# Altium integrated library ALTIUM-WE-TPC-rev17a.IntLib: 258 symbols (part 2 of 3)
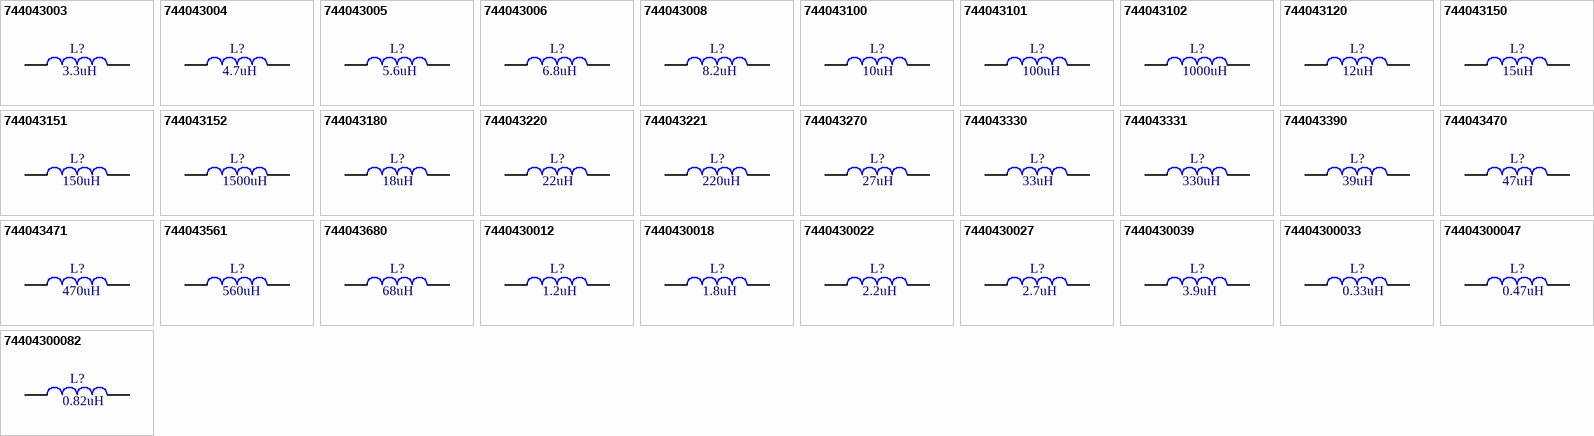
[diagram p16: symbols 744043003 to 74404300082]

## 7440430039
designator L?  value 3.9uH
WE-TPC SMD Shielded Tiny Power Inductor, size 4828, 1.72A, 50mΩ, 3.9uH; Part Number: 7440430039; ComponentLink1Description: Manufacturer; ComponentLink1URL: http://www.we-online.de; ComponentLink2Description: Datasheet; ComponentLink2URL: http://katalog.we-online.de/pbs/datasheet/7440430039.pdf; Published Date: July 2017; Publisher: Wurth Elektronik; Rated Current: 1.72A; Size: 4828; DC Resistance: 50mΩ
footprint WE-TPC_4828
pins: 1, 2

## 74404300033
designator L?  value 0.33uH
WE-TPC SMD Shielded Tiny Power Inductor, size 4828, 4A, 8mΩ, 0.33uH; Part Number: 74404300033; ComponentLink1Description: Manufacturer; ComponentLink1URL: http://www.we-online.de; ComponentLink2Description: Datasheet; ComponentLink2URL: http://katalog.we-online.de/pbs/datasheet/74404300033.pdf; Published Date: July 2017; Publisher: Wurth Elektronik; Rated Current: 4A; Size: 4828; DC Resistance: 8mΩ
footprint WE-TPC_4828
pins: 1, 2

## 74404300047
designator L?  value 0.47uH
WE-TPC SMD Shielded Tiny Power Inductor, size 4828, 3.8A, 10mΩ, 0.47uH; Part Number: 74404300047; ComponentLink1Description: Manufacturer; ComponentLink1URL: http://www.we-online.de; ComponentLink2Description: Datasheet; ComponentLink2URL: http://katalog.we-online.de/pbs/datasheet/74404300047.pdf; Published Date: July 2017; Publisher: Wurth Elektronik; Rated Current: 3.8A; Size: 4828; DC Resistance: 10mΩ
footprint WE-TPC_4828
pins: 1, 2

## 74404300082
designator L?  value 0.82uH
WE-TPC SMD Shielded Tiny Power Inductor, size 4828, 3.5A, 14mΩ, 0.82uH; Part Number: 74404300082; ComponentLink1Description: Manufacturer; ComponentLink1URL: http://www.we-online.de; ComponentLink2Description: Datasheet; ComponentLink2URL: http://katalog.we-online.de/pbs/datasheet/74404300082.pdf; Published Date: July 2017; Publisher: Wurth Elektronik; Rated Current: 3.5A; Size: 4828; DC Resistance: 14mΩ
footprint WE-TPC_4828
pins: 1, 2


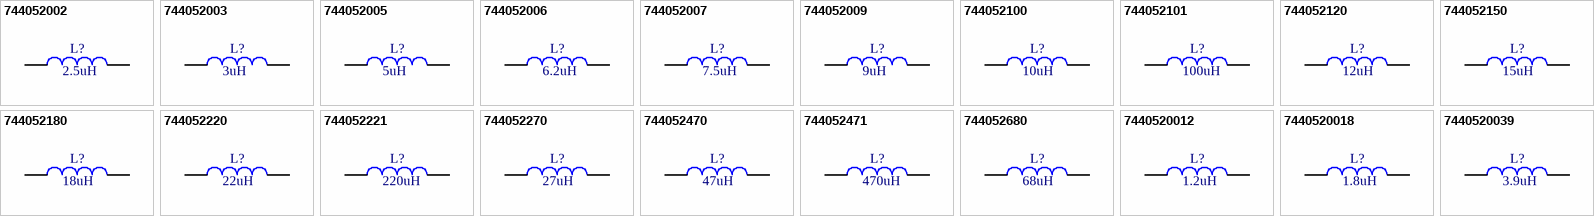
[diagram p7: symbols 744052002 to 7440520039]

## 744052002
designator L?  value 2.5uH
WE-TPC SMD Shielded Tiny Power Inductor, size 5818, 2.4A, 30mΩ, 2.5uH; Part Number: 744052002; ComponentLink1Description: Manufacturer; ComponentLink1URL: http://www.we-online.de; ComponentLink2Description: Datasheet; ComponentLink2URL: http://katalog.we-online.de/pbs/datasheet/744052002.pdf; Published Date: July 2017; Publisher: Wurth Elektronik; Rated Current: 2.4A; Size: 5818; DC Resistance: 30mΩ
footprint WE-TPC_5818
pins: 1, 2

## 744052003
designator L?  value 3uH
WE-TPC SMD Shielded Tiny Power Inductor, size 5818, 2.2A, 35mΩ, 3uH; Part Number: 744052003; ComponentLink1Description: Manufacturer; ComponentLink1URL: http://www.we-online.de; ComponentLink2Description: Datasheet; ComponentLink2URL: http://katalog.we-online.de/pbs/datasheet/744052003.pdf; Published Date: July 2017; Publisher: Wurth Elektronik; Rated Current: 2.2A; Size: 5818; DC Resistance: 35mΩ
footprint WE-TPC_5818
pins: 1, 2

## 744052005
designator L?  value 5uH
WE-TPC SMD Shielded Tiny Power Inductor, size 5818, 1.65A, 50mΩ, 5uH; Part Number: 744052005; ComponentLink1Description: Manufacturer; ComponentLink1URL: http://www.we-online.de; ComponentLink2Description: Datasheet; ComponentLink2URL: http://katalog.we-online.de/pbs/datasheet/744052005.pdf; Published Date: July 2017; Publisher: Wurth Elektronik; Rated Current: 1.65A; Size: 5818; DC Resistance: 50mΩ
footprint WE-TPC_5818
pins: 1, 2

## 744052006
designator L?  value 6.2uH
WE-TPC SMD Shielded Tiny Power Inductor, size 5818, 1.45A, 70mΩ, 6.2uH; Part Number: 744052006; ComponentLink1Description: Manufacturer; ComponentLink1URL: http://www.we-online.de; ComponentLink2Description: Datasheet; ComponentLink2URL: http://katalog.we-online.de/pbs/datasheet/744052006.pdf; Published Date: July 2017; Publisher: Wurth Elektronik; Rated Current: 1.45A; Size: 5818; DC Resistance: 70mΩ
footprint WE-TPC_5818
pins: 1, 2

## 744052007
designator L?  value 7.5uH
WE-TPC SMD Shielded Tiny Power Inductor, size 5818, 1.35A, 70mΩ, 7.5uH; Part Number: 744052007; ComponentLink1Description: Manufacturer; ComponentLink1URL: http://www.we-online.de; ComponentLink2Description: Datasheet; ComponentLink2URL: http://katalog.we-online.de/pbs/datasheet/744052007.pdf; Published Date: July 2017; Publisher: Wurth Elektronik; Rated Current: 1.35A; Size: 5818; DC Resistance: 70mΩ
footprint WE-TPC_5818
pins: 1, 2

## 744052009
designator L?  value 9uH
WE-TPC SMD Shielded Tiny Power Inductor, size 5818, 1.25A, 90mΩ, 9uH; Part Number: 744052009; ComponentLink1Description: Manufacturer; ComponentLink1URL: http://www.we-online.de; ComponentLink2Description: Datasheet; ComponentLink2URL: http://katalog.we-online.de/pbs/datasheet/744052009.pdf; Published Date: July 2017; Publisher: Wurth Elektronik; Rated Current: 1.25A; Size: 5818; DC Resistance: 90mΩ
footprint WE-TPC_5818
pins: 1, 2

## 744052100
designator L?  value 10uH
WE-TPC SMD Shielded Tiny Power Inductor, size 5818, 1.1A, 105mΩ, 10uH; Part Number: 744052100; ComponentLink1Description: Manufacturer; ComponentLink1URL: http://www.we-online.de; ComponentLink2Description: Datasheet; ComponentLink2URL: http://katalog.we-online.de/pbs/datasheet/744052100.pdf; Published Date: July 2017; Publisher: Wurth Elektronik; Rated Current: 1.1A; Size: 5818; DC Resistance: 105mΩ
footprint WE-TPC_5818
pins: 1, 2

## 744052101
designator L?  value 100uH
WE-TPC SMD Shielded Tiny Power Inductor, size 5818, 0.35A, 815mΩ, 100uH; Part Number: 744052101; ComponentLink1Description: Manufacturer; ComponentLink1URL: http://www.we-online.de; ComponentLink2Description: Datasheet; ComponentLink2URL: http://katalog.we-online.de/pbs/datasheet/744052101.pdf; Published Date: July 2017; Publisher: Wurth Elektronik; Rated Current: 0.35A; Size: 5818; DC Resistance: 815mΩ
footprint WE-TPC_5818
pins: 1, 2

## 744052120
designator L?  value 12uH
WE-TPC SMD Shielded Tiny Power Inductor, size 5818, 1A, 130mΩ, 12uH; Part Number: 744052120; ComponentLink1Description: Manufacturer; ComponentLink1URL: http://www.we-online.de; ComponentLink2Description: Datasheet; ComponentLink2URL: http://katalog.we-online.de/pbs/datasheet/744052120.pdf; Published Date: July 2017; Publisher: Wurth Elektronik; Rated Current: 1A; Size: 5818; DC Resistance: 130mΩ
footprint WE-TPC_5818
pins: 1, 2

## 744052150
designator L?  value 15uH
WE-TPC SMD Shielded Tiny Power Inductor, size 5818, 0.95A, 150mΩ, 15uH; Part Number: 744052150; ComponentLink1Description: Manufacturer; ComponentLink1URL: http://www.we-online.de; ComponentLink2Description: Datasheet; ComponentLink2URL: http://katalog.we-online.de/pbs/datasheet/744052150.pdf; Published Date: July 2017; Publisher: Wurth Elektronik; Rated Current: 0.95A; Size: 5818; DC Resistance: 150mΩ
footprint WE-TPC_5818
pins: 1, 2

## 744052180
designator L?  value 18uH
WE-TPC SMD Shielded Tiny Power Inductor, size 5818, 0.9A, 185mΩ, 18uH; Part Number: 744052180; ComponentLink1Description: Manufacturer; ComponentLink1URL: http://www.we-online.de; ComponentLink2Description: Datasheet; ComponentLink2URL: http://katalog.we-online.de/pbs/datasheet/744052180.pdf; Published Date: July 2017; Publisher: Wurth Elektronik; Rated Current: 0.9A; Size: 5818; DC Resistance: 185mΩ
footprint WE-TPC_5818
pins: 1, 2

## 744052220
designator L?  value 22uH
WE-TPC SMD Shielded Tiny Power Inductor, size 5818, 0.8A, 240mΩ, 22uH; Part Number: 744052220; ComponentLink1Description: Manufacturer; ComponentLink1URL: http://www.we-online.de; ComponentLink2Description: Datasheet; ComponentLink2URL: http://katalog.we-online.de/pbs/datasheet/744052220.pdf; Published Date: July 2017; Publisher: Wurth Elektronik; Rated Current: 0.8A; Size: 5818; DC Resistance: 240mΩ
footprint WE-TPC_5818
pins: 1, 2

## 744052221
designator L?  value 220uH
WE-TPC SMD Shielded Tiny Power Inductor, size 5818, 0.23A, 2400mΩ, 220uH; Part Number: 744052221; ComponentLink1Description: Manufacturer; ComponentLink1URL: http://www.we-online.de; ComponentLink2Description: Datasheet; ComponentLink2URL: http://katalog.we-online.de/pbs/datasheet/744052221.pdf; Published Date: July 2017; Publisher: Wurth Elektronik; Rated Current: 0.23A; Size: 5818; DC Resistance: 2400mΩ
footprint WE-TPC_5818
pins: 1, 2

## 744052270
designator L?  value 27uH
WE-TPC SMD Shielded Tiny Power Inductor, size 5818, 0.78A, 250mΩ, 27uH; Part Number: 744052270; ComponentLink1Description: Manufacturer; ComponentLink1URL: http://www.we-online.de; ComponentLink2Description: Datasheet; ComponentLink2URL: http://katalog.we-online.de/pbs/datasheet/744052270.pdf; Published Date: July 2017; Publisher: Wurth Elektronik; Rated Current: 0.78A; Size: 5818; DC Resistance: 250mΩ
footprint WE-TPC_5818
pins: 1, 2

## 744052470
designator L?  value 47uH
WE-TPC SMD Shielded Tiny Power Inductor, size 5818, 0.77A, 530mΩ, 47uH; Part Number: 744052470; ComponentLink1Description: Manufacturer; ComponentLink1URL: http://www.we-online.de; ComponentLink2Description: Datasheet; ComponentLink2URL: http://katalog.we-online.de/pbs/datasheet/744052470.pdf; Published Date: July 2017; Publisher: Wurth Elektronik; Rated Current: 0.77A; Size: 5818; DC Resistance: 530mΩ
footprint WE-TPC_5818
pins: 1, 2

## 744052471
designator L?  value 470uH
WE-TPC SMD Shielded Tiny Power Inductor, size 5818, 0.14A, 4175mΩ, 470uH; Part Number: 744052471; ComponentLink1Description: Manufacturer; ComponentLink1URL: http://www.we-online.de; ComponentLink2Description: Datasheet; ComponentLink2URL: http://katalog.we-online.de/pbs/datasheet/744052471.pdf; Published Date: July 2017; Publisher: Wurth Elektronik; Rated Current: 0.14A; Size: 5818; DC Resistance: 4175mΩ
footprint WE-TPC_5818
pins: 1, 2

## 744052680
designator L?  value 68uH
WE-TPC SMD Shielded Tiny Power Inductor, size 5818, 0.64A, 840mΩ, 68uH; Part Number: 744052680; ComponentLink1Description: Manufacturer; ComponentLink1URL: http://www.we-online.de; ComponentLink2Description: Datasheet; ComponentLink2URL: http://katalog.we-online.de/pbs/datasheet/744052680.pdf; Published Date: July 2017; Publisher: Wurth Elektronik; Rated Current: 0.64A; Size: 5818; DC Resistance: 840mΩ
footprint WE-TPC_5818
pins: 1, 2

## 7440520012
designator L?  value 1.2uH
WE-TPC SMD Shielded Tiny Power Inductor, size 5818, 3A, 20mΩ, 1.2uH; Part Number: 7440520012; ComponentLink1Description: Manufacturer; ComponentLink1URL: http://www.we-online.de; ComponentLink2Description: Datasheet; ComponentLink2URL: http://katalog.we-online.de/pbs/datasheet/7440520012.pdf; Published Date: July 2017; Publisher: Wurth Elektronik; Rated Current: 3A; Size: 5818; DC Resistance: 20mΩ
footprint WE-TPC_5818
pins: 1, 2

## 7440520018
designator L?  value 1.8uH
WE-TPC SMD Shielded Tiny Power Inductor, size 5818, 2.6A, 24mΩ, 1.8uH; Part Number: 7440520018; ComponentLink1Description: Manufacturer; ComponentLink1URL: http://www.we-online.de; ComponentLink2Description: Datasheet; ComponentLink2URL: http://katalog.we-online.de/pbs/datasheet/7440520018.pdf; Published Date: July 2017; Publisher: Wurth Elektronik; Rated Current: 2.6A; Size: 5818; DC Resistance: 24mΩ
footprint WE-TPC_5818
pins: 1, 2

## 7440520039
designator L?  value 3.9uH
WE-TPC SMD Shielded Tiny Power Inductor, size 5818, 2A, 50mΩ, 3.9uH; Part Number: 7440520039; ComponentLink1Description: Manufacturer; ComponentLink1URL: http://www.we-online.de; ComponentLink2Description: Datasheet; ComponentLink2URL: http://katalog.we-online.de/pbs/datasheet/7440520039.pdf; Published Date: July 2017; Publisher: Wurth Elektronik; Rated Current: 2A; Size: 5818; DC Resistance: 50mΩ
footprint WE-TPC_5818
pins: 1, 2


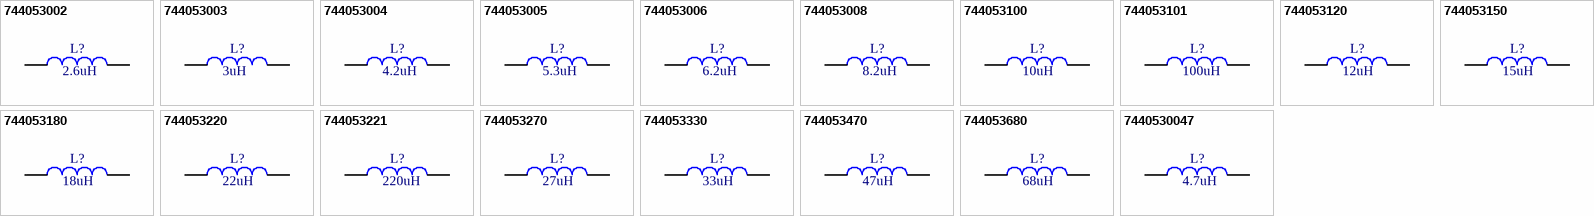
[diagram p8: symbols 744053002 to 7440530047]

## 744053002
designator L?  value 2.6uH
WE-TPC SMD Shielded Tiny Power Inductor, size 5828, 3A, 20mΩ, 2.6uH; Part Number: 744053002; ComponentLink1Description: Manufacturer; ComponentLink1URL: http://www.we-online.de; ComponentLink2Description: Datasheet; ComponentLink2URL: http://katalog.we-online.de/pbs/datasheet/744053002.pdf; Published Date: July 2017; Publisher: Wurth Elektronik; Rated Current: 3A; Size: 5828; DC Resistance: 20mΩ
footprint WE-TPC_5828
pins: 1, 2

## 744053003
designator L?  value 3uH
WE-TPC SMD Shielded Tiny Power Inductor, size 5828, 2.8A, 20mΩ, 3uH; Part Number: 744053003; ComponentLink1Description: Manufacturer; ComponentLink1URL: http://www.we-online.de; ComponentLink2Description: Datasheet; ComponentLink2URL: http://katalog.we-online.de/pbs/datasheet/744053003.pdf; Published Date: July 2017; Publisher: Wurth Elektronik; Rated Current: 2.8A; Size: 5828; DC Resistance: 20mΩ
footprint WE-TPC_5828
pins: 1, 2

## 744053004
designator L?  value 4.2uH
WE-TPC SMD Shielded Tiny Power Inductor, size 5828, 2.5A, 30mΩ, 4.2uH; Part Number: 744053004; ComponentLink1Description: Manufacturer; ComponentLink1URL: http://www.we-online.de; ComponentLink2Description: Datasheet; ComponentLink2URL: http://katalog.we-online.de/pbs/datasheet/744053004.pdf; Published Date: July 2017; Publisher: Wurth Elektronik; Rated Current: 2.5A; Size: 5828; DC Resistance: 30mΩ
footprint WE-TPC_5828
pins: 1, 2

## 744053005
designator L?  value 5.3uH
WE-TPC SMD Shielded Tiny Power Inductor, size 5828, 2.3A, 30mΩ, 5.3uH; Part Number: 744053005; ComponentLink1Description: Manufacturer; ComponentLink1URL: http://www.we-online.de; ComponentLink2Description: Datasheet; ComponentLink2URL: http://katalog.we-online.de/pbs/datasheet/744053005.pdf; Published Date: July 2017; Publisher: Wurth Elektronik; Rated Current: 2.3A; Size: 5828; DC Resistance: 30mΩ
footprint WE-TPC_5828
pins: 1, 2

## 744053006
designator L?  value 6.2uH
WE-TPC SMD Shielded Tiny Power Inductor, size 5828, 2.2A, 40mΩ, 6.2uH; Part Number: 744053006; ComponentLink1Description: Manufacturer; ComponentLink1URL: http://www.we-online.de; ComponentLink2Description: Datasheet; ComponentLink2URL: http://katalog.we-online.de/pbs/datasheet/744053006.pdf; Published Date: July 2017; Publisher: Wurth Elektronik; Rated Current: 2.2A; Size: 5828; DC Resistance: 40mΩ
footprint WE-TPC_5828
pins: 1, 2

## 744053008
designator L?  value 8.2uH
WE-TPC SMD Shielded Tiny Power Inductor, size 5828, 2.1A, 50mΩ, 8.2uH; Part Number: 744053008; ComponentLink1Description: Manufacturer; ComponentLink1URL: http://www.we-online.de; ComponentLink2Description: Datasheet; ComponentLink2URL: http://katalog.we-online.de/pbs/datasheet/744053008.pdf; Published Date: July 2017; Publisher: Wurth Elektronik; Rated Current: 2.1A; Size: 5828; DC Resistance: 50mΩ
footprint WE-TPC_5828
pins: 1, 2

## 744053100
designator L?  value 10uH
WE-TPC SMD Shielded Tiny Power Inductor, size 5828, 1.5A, 60mΩ, 10uH; Part Number: 744053100; ComponentLink1Description: Manufacturer; ComponentLink1URL: http://www.we-online.de; ComponentLink2Description: Datasheet; ComponentLink2URL: http://katalog.we-online.de/pbs/datasheet/744053100.pdf; Published Date: July 2017; Publisher: Wurth Elektronik; Rated Current: 1.5A; Size: 5828; DC Resistance: 60mΩ
footprint WE-TPC_5828
pins: 1, 2

## 744053101
designator L?  value 100uH
WE-TPC SMD Shielded Tiny Power Inductor, size 5828, 0.45A, 400mΩ, 100uH; Part Number: 744053101; ComponentLink1Description: Manufacturer; ComponentLink1URL: http://www.we-online.de; ComponentLink2Description: Datasheet; ComponentLink2URL: http://katalog.we-online.de/pbs/datasheet/744053101.pdf; Published Date: July 2017; Publisher: Wurth Elektronik; Rated Current: 0.45A; Size: 5828; DC Resistance: 400mΩ
footprint WE-TPC_5828
pins: 1, 2

## 744053120
designator L?  value 12uH
WE-TPC SMD Shielded Tiny Power Inductor, size 5828, 1.46A, 70mΩ, 12uH; Part Number: 744053120; ComponentLink1Description: Manufacturer; ComponentLink1URL: http://www.we-online.de; ComponentLink2Description: Datasheet; ComponentLink2URL: http://katalog.we-online.de/pbs/datasheet/744053120.pdf; Published Date: July 2017; Publisher: Wurth Elektronik; Rated Current: 1.46A; Size: 5828; DC Resistance: 70mΩ
footprint WE-TPC_5828
pins: 1, 2

## 744053150
designator L?  value 15uH
WE-TPC SMD Shielded Tiny Power Inductor, size 5828, 1.38A, 80mΩ, 15uH; Part Number: 744053150; ComponentLink1Description: Manufacturer; ComponentLink1URL: http://www.we-online.de; ComponentLink2Description: Datasheet; ComponentLink2URL: http://katalog.we-online.de/pbs/datasheet/744053150.pdf; Published Date: July 2017; Publisher: Wurth Elektronik; Rated Current: 1.38A; Size: 5828; DC Resistance: 80mΩ
footprint WE-TPC_5828
pins: 1, 2

## 744053180
designator L?  value 18uH
WE-TPC SMD Shielded Tiny Power Inductor, size 5828, 1.25A, 90mΩ, 18uH; Part Number: 744053180; ComponentLink1Description: Manufacturer; ComponentLink1URL: http://www.we-online.de; ComponentLink2Description: Datasheet; ComponentLink2URL: http://katalog.we-online.de/pbs/datasheet/744053180.pdf; Published Date: July 2017; Publisher: Wurth Elektronik; Rated Current: 1.25A; Size: 5828; DC Resistance: 90mΩ
footprint WE-TPC_5828
pins: 1, 2

## 744053220
designator L?  value 22uH
WE-TPC SMD Shielded Tiny Power Inductor, size 5828, 1.15A, 100mΩ, 22uH; Part Number: 744053220; ComponentLink1Description: Manufacturer; ComponentLink1URL: http://www.we-online.de; ComponentLink2Description: Datasheet; ComponentLink2URL: http://katalog.we-online.de/pbs/datasheet/744053220.pdf; Published Date: July 2017; Publisher: Wurth Elektronik; Rated Current: 1.15A; Size: 5828; DC Resistance: 100mΩ
footprint WE-TPC_5828
pins: 1, 2

## 744053221
designator L?  value 220uH
WE-TPC SMD Shielded Tiny Power Inductor, size 5828, 0.3A, 1170mΩ, 220uH; Part Number: 744053221; ComponentLink1Description: Manufacturer; ComponentLink1URL: http://www.we-online.de; ComponentLink2Description: Datasheet; ComponentLink2URL: http://katalog.we-online.de/pbs/datasheet/744053221.pdf; Published Date: July 2017; Publisher: Wurth Elektronik; Rated Current: 0.3A; Size: 5828; DC Resistance: 1170mΩ
footprint WE-TPC_5828
pins: 1, 2

## 744053270
designator L?  value 27uH
WE-TPC SMD Shielded Tiny Power Inductor, size 5828, 1.05A, 135mΩ, 27uH; Part Number: 744053270; ComponentLink1Description: Manufacturer; ComponentLink1URL: http://www.we-online.de; ComponentLink2Description: Datasheet; ComponentLink2URL: http://katalog.we-online.de/pbs/datasheet/744053270.pdf; Published Date: July 2017; Publisher: Wurth Elektronik; Rated Current: 1.05A; Size: 5828; DC Resistance: 135mΩ
footprint WE-TPC_5828
pins: 1, 2

## 744053330
designator L?  value 33uH
WE-TPC SMD Shielded Tiny Power Inductor, size 5828, 0.9A, 180mΩ, 33uH; Part Number: 744053330; ComponentLink1Description: Manufacturer; ComponentLink1URL: http://www.we-online.de; ComponentLink2Description: Datasheet; ComponentLink2URL: http://katalog.we-online.de/pbs/datasheet/744053330.pdf; Published Date: July 2017; Publisher: Wurth Elektronik; Rated Current: 0.9A; Size: 5828; DC Resistance: 180mΩ
footprint WE-TPC_5828
pins: 1, 2

## 744053470
designator L?  value 47uH
WE-TPC SMD Shielded Tiny Power Inductor, size 5828, 0.82A, 220mΩ, 47uH; Part Number: 744053470; ComponentLink1Description: Manufacturer; ComponentLink1URL: http://www.we-online.de; ComponentLink2Description: Datasheet; ComponentLink2URL: http://katalog.we-online.de/pbs/datasheet/744053470.pdf; Published Date: July 2017; Publisher: Wurth Elektronik; Rated Current: 0.82A; Size: 5828; DC Resistance: 220mΩ
footprint WE-TPC_5828
pins: 1, 2

## 744053680
designator L?  value 68uH
WE-TPC SMD Shielded Tiny Power Inductor, size 5828, 0.75A, 300mΩ, 68uH; Part Number: 744053680; ComponentLink1Description: Manufacturer; ComponentLink1URL: http://www.we-online.de; ComponentLink2Description: Datasheet; ComponentLink2URL: http://katalog.we-online.de/pbs/datasheet/744053680.pdf; Published Date: July 2017; Publisher: Wurth Elektronik; Rated Current: 0.75A; Size: 5828; DC Resistance: 300mΩ
footprint WE-TPC_5828
pins: 1, 2

## 7440530047
designator L?  value 4.7uH
WE-TPC SMD Shielded Tiny Power Inductor, size 5828, 2.4A, 30mΩ, 4.7uH; Part Number: 7440530047; ComponentLink1Description: Manufacturer; ComponentLink1URL: http://www.we-online.de; ComponentLink2Description: Datasheet; ComponentLink2URL: http://katalog.we-online.de/pbs/datasheet/7440530047.pdf; Published Date: July 2017; Publisher: Wurth Elektronik; Rated Current: 2.4A; Size: 5828; DC Resistance: 30mΩ
footprint WE-TPC_5828
pins: 1, 2


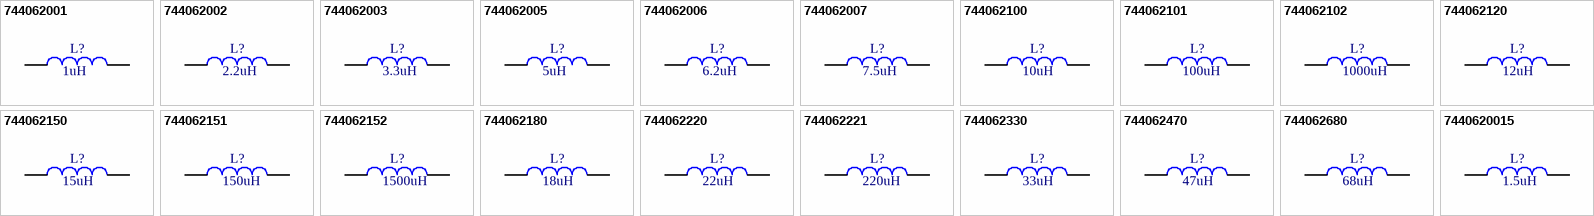
[diagram p9: symbols 744062001 to 7440620015]

## 744062001
designator L?  value 1uH
WE-TPC SMD Shielded Tiny Power Inductor, size 6823, 4.8A, 10mΩ, 1uH; Part Number: 744062001; ComponentLink1Description: Manufacturer; ComponentLink1URL: http://www.we-online.de; ComponentLink2Description: Datasheet; ComponentLink2URL: http://katalog.we-online.de/pbs/datasheet/744062001.pdf; Published Date: July 2017; Publisher: Wurth Elektronik; Rated Current: 4.8A; Size: 6823; DC Resistance: 10mΩ
footprint WE-TPC_6823
pins: 1, 2

## 744062002
designator L?  value 2.2uH
WE-TPC SMD Shielded Tiny Power Inductor, size 6823, 3.4A, 10mΩ, 2.2uH; Part Number: 744062002; ComponentLink1Description: Manufacturer; ComponentLink1URL: http://www.we-online.de; ComponentLink2Description: Datasheet; ComponentLink2URL: http://katalog.we-online.de/pbs/datasheet/744062002.pdf; Published Date: July 2017; Publisher: Wurth Elektronik; Rated Current: 3.4A; Size: 6823; DC Resistance: 10mΩ
footprint WE-TPC_6823
pins: 1, 2

## 744062003
designator L?  value 3.3uH
WE-TPC SMD Shielded Tiny Power Inductor, size 6823, 2.8A, 20mΩ, 3.3uH; Part Number: 744062003; ComponentLink1Description: Manufacturer; ComponentLink1URL: http://www.we-online.de; ComponentLink2Description: Datasheet; ComponentLink2URL: http://katalog.we-online.de/pbs/datasheet/744062003.pdf; Published Date: July 2017; Publisher: Wurth Elektronik; Rated Current: 2.8A; Size: 6823; DC Resistance: 20mΩ
footprint WE-TPC_6823
pins: 1, 2

## 744062005
designator L?  value 5uH
WE-TPC SMD Shielded Tiny Power Inductor, size 6823, 2.15A, 40mΩ, 5uH; Part Number: 744062005; ComponentLink1Description: Manufacturer; ComponentLink1URL: http://www.we-online.de; ComponentLink2Description: Datasheet; ComponentLink2URL: http://katalog.we-online.de/pbs/datasheet/744062005.pdf; Published Date: July 2017; Publisher: Wurth Elektronik; Rated Current: 2.15A; Size: 6823; DC Resistance: 40mΩ
footprint WE-TPC_6823
pins: 1, 2

## 744062006
designator L?  value 6.2uH
WE-TPC SMD Shielded Tiny Power Inductor, size 6823, 1.9A, 40mΩ, 6.2uH; Part Number: 744062006; ComponentLink1Description: Manufacturer; ComponentLink1URL: http://www.we-online.de; ComponentLink2Description: Datasheet; ComponentLink2URL: http://katalog.we-online.de/pbs/datasheet/744062006.pdf; Published Date: July 2017; Publisher: Wurth Elektronik; Rated Current: 1.9A; Size: 6823; DC Resistance: 40mΩ
footprint WE-TPC_6823
pins: 1, 2

## 744062007
designator L?  value 7.5uH
WE-TPC SMD Shielded Tiny Power Inductor, size 6823, 1.7A, 50mΩ, 7.5uH; Part Number: 744062007; ComponentLink1Description: Manufacturer; ComponentLink1URL: http://www.we-online.de; ComponentLink2Description: Datasheet; ComponentLink2URL: http://katalog.we-online.de/pbs/datasheet/744062007.pdf; Published Date: July 2017; Publisher: Wurth Elektronik; Rated Current: 1.7A; Size: 6823; DC Resistance: 50mΩ
footprint WE-TPC_6823
pins: 1, 2

## 744062100
designator L?  value 10uH
WE-TPC SMD Shielded Tiny Power Inductor, size 6823, 1.6A, 53mΩ, 10uH; Part Number: 744062100; ComponentLink1Description: Manufacturer; ComponentLink1URL: http://www.we-online.de; ComponentLink2Description: Datasheet; ComponentLink2URL: http://katalog.we-online.de/pbs/datasheet/744062100.pdf; Published Date: July 2017; Publisher: Wurth Elektronik; Rated Current: 1.6A; Size: 6823; DC Resistance: 53mΩ
footprint WE-TPC_6823
pins: 1, 2

## 744062101
designator L?  value 100uH
WE-TPC SMD Shielded Tiny Power Inductor, size 6823, 0.55A, 440mΩ, 100uH; Part Number: 744062101; ComponentLink1Description: Manufacturer; ComponentLink1URL: http://www.we-online.de; ComponentLink2Description: Datasheet; ComponentLink2URL: http://katalog.we-online.de/pbs/datasheet/744062101.pdf; Published Date: July 2017; Publisher: Wurth Elektronik; Rated Current: 0.55A; Size: 6823; DC Resistance: 440mΩ
footprint WE-TPC_6823
pins: 1, 2

## 744062102
designator L?  value 1000uH
WE-TPC SMD Shielded Tiny Power Inductor, size 6823, 0.16A, 3820mΩ, 1000uH; Part Number: 744062102; ComponentLink1Description: Manufacturer; ComponentLink1URL: http://www.we-online.de; ComponentLink2Description: Datasheet; ComponentLink2URL: http://katalog.we-online.de/pbs/datasheet/744062102.pdf; Published Date: July 2017; Publisher: Wurth Elektronik; Rated Current: 0.16A; Size: 6823; DC Resistance: 3820mΩ
footprint WE-TPC_6823
pins: 1, 2

## 744062120
designator L?  value 12uH
WE-TPC SMD Shielded Tiny Power Inductor, size 6823, 1.43A, 60mΩ, 12uH; Part Number: 744062120; ComponentLink1Description: Manufacturer; ComponentLink1URL: http://www.we-online.de; ComponentLink2Description: Datasheet; ComponentLink2URL: http://katalog.we-online.de/pbs/datasheet/744062120.pdf; Published Date: July 2017; Publisher: Wurth Elektronik; Rated Current: 1.43A; Size: 6823; DC Resistance: 60mΩ
footprint WE-TPC_6823
pins: 1, 2

## 744062150
designator L?  value 15uH
WE-TPC SMD Shielded Tiny Power Inductor, size 6823, 1.31A, 80mΩ, 15uH; Part Number: 744062150; ComponentLink1Description: Manufacturer; ComponentLink1URL: http://www.we-online.de; ComponentLink2Description: Datasheet; ComponentLink2URL: http://katalog.we-online.de/pbs/datasheet/744062150.pdf; Published Date: July 2017; Publisher: Wurth Elektronik; Rated Current: 1.31A; Size: 6823; DC Resistance: 80mΩ
footprint WE-TPC_6823
pins: 1, 2

## 744062151
designator L?  value 150uH
WE-TPC SMD Shielded Tiny Power Inductor, size 6823, 0.43A, 605mΩ, 150uH; Part Number: 744062151; ComponentLink1Description: Manufacturer; ComponentLink1URL: http://www.we-online.de; ComponentLink2Description: Datasheet; ComponentLink2URL: http://katalog.we-online.de/pbs/datasheet/744062151.pdf; Published Date: July 2017; Publisher: Wurth Elektronik; Rated Current: 0.43A; Size: 6823; DC Resistance: 605mΩ
footprint WE-TPC_6823
pins: 1, 2

## 744062152
designator L?  value 1500uH
WE-TPC SMD Shielded Tiny Power Inductor, size 6823, 0.08A, 7000mΩ, 1500uH; Part Number: 744062152; ComponentLink1Description: Manufacturer; ComponentLink1URL: http://www.we-online.de; ComponentLink2Description: Datasheet; ComponentLink2URL: http://katalog.we-online.de/pbs/datasheet/744062152.pdf; Published Date: July 2017; Publisher: Wurth Elektronik; Rated Current: 0.08A; Size: 6823; DC Resistance: 7000mΩ
footprint WE-TPC_6823
pins: 1, 2

## 744062180
designator L?  value 18uH
WE-TPC SMD Shielded Tiny Power Inductor, size 6823, 1.28A, 90mΩ, 18uH; Part Number: 744062180; ComponentLink1Description: Manufacturer; ComponentLink1URL: http://www.we-online.de; ComponentLink2Description: Datasheet; ComponentLink2URL: http://katalog.we-online.de/pbs/datasheet/744062180.pdf; Published Date: July 2017; Publisher: Wurth Elektronik; Rated Current: 1.28A; Size: 6823; DC Resistance: 90mΩ
footprint WE-TPC_6823
pins: 1, 2

## 744062220
designator L?  value 22uH
WE-TPC SMD Shielded Tiny Power Inductor, size 6823, 1.22A, 100mΩ, 22uH; Part Number: 744062220; ComponentLink1Description: Manufacturer; ComponentLink1URL: http://www.we-online.de; ComponentLink2Description: Datasheet; ComponentLink2URL: http://katalog.we-online.de/pbs/datasheet/744062220.pdf; Published Date: July 2017; Publisher: Wurth Elektronik; Rated Current: 1.22A; Size: 6823; DC Resistance: 100mΩ
footprint WE-TPC_6823
pins: 1, 2

## 744062221
designator L?  value 220uH
WE-TPC SMD Shielded Tiny Power Inductor, size 6823, 0.36A, 1010mΩ, 220uH; Part Number: 744062221; ComponentLink1Description: Manufacturer; ComponentLink1URL: http://www.we-online.de; ComponentLink2Description: Datasheet; ComponentLink2URL: http://katalog.we-online.de/pbs/datasheet/744062221.pdf; Published Date: July 2017; Publisher: Wurth Elektronik; Rated Current: 0.36A; Size: 6823; DC Resistance: 1010mΩ
footprint WE-TPC_6823
pins: 1, 2

## 744062330
designator L?  value 33uH
WE-TPC SMD Shielded Tiny Power Inductor, size 6823, 0.93A, 150mΩ, 33uH; Part Number: 744062330; ComponentLink1Description: Manufacturer; ComponentLink1URL: http://www.we-online.de; ComponentLink2Description: Datasheet; ComponentLink2URL: http://katalog.we-online.de/pbs/datasheet/744062330.pdf; Published Date: July 2017; Publisher: Wurth Elektronik; Rated Current: 0.93A; Size: 6823; DC Resistance: 150mΩ
footprint WE-TPC_6823
pins: 1, 2

## 744062470
designator L?  value 47uH
WE-TPC SMD Shielded Tiny Power Inductor, size 6823, 0.73A, 260mΩ, 47uH; Part Number: 744062470; ComponentLink1Description: Manufacturer; ComponentLink1URL: http://www.we-online.de; ComponentLink2Description: Datasheet; ComponentLink2URL: http://katalog.we-online.de/pbs/datasheet/744062470.pdf; Published Date: July 2017; Publisher: Wurth Elektronik; Rated Current: 0.73A; Size: 6823; DC Resistance: 260mΩ
footprint WE-TPC_6823
pins: 1, 2

## 744062680
designator L?  value 68uH
WE-TPC SMD Shielded Tiny Power Inductor, size 6823, 0.64A, 300mΩ, 68uH; Part Number: 744062680; ComponentLink1Description: Manufacturer; ComponentLink1URL: http://www.we-online.de; ComponentLink2Description: Datasheet; ComponentLink2URL: http://katalog.we-online.de/pbs/datasheet/744062680.pdf; Published Date: July 2017; Publisher: Wurth Elektronik; Rated Current: 0.64A; Size: 6823; DC Resistance: 300mΩ
footprint WE-TPC_6823
pins: 1, 2

## 7440620015
designator L?  value 1.5uH
WE-TPC SMD Shielded Tiny Power Inductor, size 6823, 4.3A, 10mΩ, 1.5uH; Part Number: 7440620015; ComponentLink1Description: Manufacturer; ComponentLink1URL: http://www.we-online.de; ComponentLink2Description: Datasheet; ComponentLink2URL: http://katalog.we-online.de/pbs/datasheet/7440620015.pdf; Published Date: July 2017; Publisher: Wurth Elektronik; Rated Current: 4.3A; Size: 6823; DC Resistance: 10mΩ
footprint WE-TPC_6823
pins: 1, 2


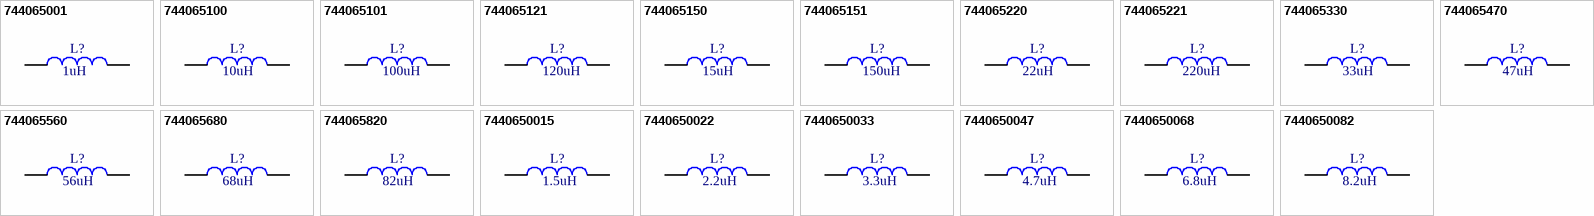
[diagram p10: symbols 744065001 to 7440650082]

## 744065001
designator L?  value 1uH
WE-TPC SMD Shielded Tiny Power Inductor, size 1028, 8A, 4.9mΩ, 1uH; Part Number: 744065001; ComponentLink1Description: Manufacturer; ComponentLink1URL: http://www.we-online.de; ComponentLink2Description: Datasheet; ComponentLink2URL: http://katalog.we-online.de/pbs/datasheet/744065001.pdf; Published Date: July 2017; Publisher: Wurth Elektronik; Rated Current: 8A; Size: 1028; DC Resistance: 4.9mΩ
footprint WE-TPC_1028
pins: 1, 2

## 744065100
designator L?  value 10uH
WE-TPC SMD Shielded Tiny Power Inductor, size 1028, 3A, 40mΩ, 10uH; Part Number: 744065100; ComponentLink1Description: Manufacturer; ComponentLink1URL: http://www.we-online.de; ComponentLink2Description: Datasheet; ComponentLink2URL: http://katalog.we-online.de/pbs/datasheet/744065100.pdf; Published Date: July 2017; Publisher: Wurth Elektronik; Rated Current: 3A; Size: 1028; DC Resistance: 40mΩ
footprint WE-TPC_1028
pins: 1, 2

## 744065101
designator L?  value 100uH
WE-TPC SMD Shielded Tiny Power Inductor, size 1028, 1A, 365mΩ, 100uH; Part Number: 744065101; ComponentLink1Description: Manufacturer; ComponentLink1URL: http://www.we-online.de; ComponentLink2Description: Datasheet; ComponentLink2URL: http://katalog.we-online.de/pbs/datasheet/744065101.pdf; Published Date: July 2017; Publisher: Wurth Elektronik; Rated Current: 1A; Size: 1028; DC Resistance: 365mΩ
footprint WE-TPC_1028
pins: 1, 2

## 744065121
designator L?  value 120uH
WE-TPC SMD Shielded Tiny Power Inductor, size 1028, 0.9A, 428mΩ, 120uH; Part Number: 744065121; ComponentLink1Description: Manufacturer; ComponentLink1URL: http://www.we-online.de; ComponentLink2Description: Datasheet; ComponentLink2URL: http://katalog.we-online.de/pbs/datasheet/744065121.pdf; Published Date: July 2017; Publisher: Wurth Elektronik; Rated Current: 0.9A; Size: 1028; DC Resistance: 428mΩ
footprint WE-TPC_1028
pins: 1, 2

## 744065150
designator L?  value 15uH
WE-TPC SMD Shielded Tiny Power Inductor, size 1028, 2.2A, 69mΩ, 15uH; Part Number: 744065150; ComponentLink1Description: Manufacturer; ComponentLink1URL: http://www.we-online.de; ComponentLink2Description: Datasheet; ComponentLink2URL: http://katalog.we-online.de/pbs/datasheet/744065150.pdf; Published Date: July 2017; Publisher: Wurth Elektronik; Rated Current: 2.2A; Size: 1028; DC Resistance: 69mΩ
footprint WE-TPC_1028
pins: 1, 2

## 744065151
designator L?  value 150uH
WE-TPC SMD Shielded Tiny Power Inductor, size 1028, 0.85A, 530mΩ, 150uH; Part Number: 744065151; ComponentLink1Description: Manufacturer; ComponentLink1URL: http://www.we-online.de; ComponentLink2Description: Datasheet; ComponentLink2URL: http://katalog.we-online.de/pbs/datasheet/744065151.pdf; Published Date: July 2017; Publisher: Wurth Elektronik; Rated Current: 0.85A; Size: 1028; DC Resistance: 530mΩ
footprint WE-TPC_1028
pins: 1, 2

## 744065220
designator L?  value 22uH
WE-TPC SMD Shielded Tiny Power Inductor, size 1028, 1.8A, 104mΩ, 22uH; Part Number: 744065220; ComponentLink1Description: Manufacturer; ComponentLink1URL: http://www.we-online.de; ComponentLink2Description: Datasheet; ComponentLink2URL: http://katalog.we-online.de/pbs/datasheet/744065220.pdf; Published Date: July 2017; Publisher: Wurth Elektronik; Rated Current: 1.8A; Size: 1028; DC Resistance: 104mΩ
footprint WE-TPC_1028
pins: 1, 2

## 744065221
designator L?  value 220uH
WE-TPC SMD Shielded Tiny Power Inductor, size 1028, 0.5A, 750mΩ, 220uH; Part Number: 744065221; ComponentLink1Description: Manufacturer; ComponentLink1URL: http://www.we-online.de; ComponentLink2Description: Datasheet; ComponentLink2URL: http://katalog.we-online.de/pbs/datasheet/744065221.pdf; Published Date: July 2017; Publisher: Wurth Elektronik; Rated Current: 0.5A; Size: 1028; DC Resistance: 750mΩ
footprint WE-TPC_1028
pins: 1, 2

## 744065330
designator L?  value 33uH
WE-TPC SMD Shielded Tiny Power Inductor, size 1028, 1.6A, 139mΩ, 33uH; Part Number: 744065330; ComponentLink1Description: Manufacturer; ComponentLink1URL: http://www.we-online.de; ComponentLink2Description: Datasheet; ComponentLink2URL: http://katalog.we-online.de/pbs/datasheet/744065330.pdf; Published Date: July 2017; Publisher: Wurth Elektronik; Rated Current: 1.6A; Size: 1028; DC Resistance: 139mΩ
footprint WE-TPC_1028
pins: 1, 2

## 744065470
designator L?  value 47uH
WE-TPC SMD Shielded Tiny Power Inductor, size 1028, 1.4A, 167mΩ, 47uH; Part Number: 744065470; ComponentLink1Description: Manufacturer; ComponentLink1URL: http://www.we-online.de; ComponentLink2Description: Datasheet; ComponentLink2URL: http://katalog.we-online.de/pbs/datasheet/744065470.pdf; Published Date: July 2017; Publisher: Wurth Elektronik; Rated Current: 1.4A; Size: 1028; DC Resistance: 167mΩ
footprint WE-TPC_1028
pins: 1, 2

## 744065560
designator L?  value 56uH
WE-TPC SMD Shielded Tiny Power Inductor, size 1028, 1.25A, 208mΩ, 56uH; Part Number: 744065560; ComponentLink1Description: Manufacturer; ComponentLink1URL: http://www.we-online.de; ComponentLink2Description: Datasheet; ComponentLink2URL: http://katalog.we-online.de/pbs/datasheet/744065560.pdf; Published Date: July 2017; Publisher: Wurth Elektronik; Rated Current: 1.25A; Size: 1028; DC Resistance: 208mΩ
footprint WE-TPC_1028
pins: 1, 2

## 744065680
designator L?  value 68uH
WE-TPC SMD Shielded Tiny Power Inductor, size 1028, 1.2A, 232mΩ, 68uH; Part Number: 744065680; ComponentLink1Description: Manufacturer; ComponentLink1URL: http://www.we-online.de; ComponentLink2Description: Datasheet; ComponentLink2URL: http://katalog.we-online.de/pbs/datasheet/744065680.pdf; Published Date: July 2017; Publisher: Wurth Elektronik; Rated Current: 1.2A; Size: 1028; DC Resistance: 232mΩ
footprint WE-TPC_1028
pins: 1, 2

## 744065820
designator L?  value 82uH
WE-TPC SMD Shielded Tiny Power Inductor, size 1028, 1.1A, 323mΩ, 82uH; Part Number: 744065820; ComponentLink1Description: Manufacturer; ComponentLink1URL: http://www.we-online.de; ComponentLink2Description: Datasheet; ComponentLink2URL: http://katalog.we-online.de/pbs/datasheet/744065820.pdf; Published Date: July 2017; Publisher: Wurth Elektronik; Rated Current: 1.1A; Size: 1028; DC Resistance: 323mΩ
footprint WE-TPC_1028
pins: 1, 2

## 7440650015
designator L?  value 1.5uH
WE-TPC SMD Shielded Tiny Power Inductor, size 1028, 7.2A, 7.3mΩ, 1.5uH; Part Number: 7440650015; ComponentLink1Description: Manufacturer; ComponentLink1URL: http://www.we-online.de; ComponentLink2Description: Datasheet; ComponentLink2URL: http://katalog.we-online.de/pbs/datasheet/7440650015.pdf; Published Date: July 2017; Publisher: Wurth Elektronik; Rated Current: 7.2A; Size: 1028; DC Resistance: 7.3mΩ
footprint WE-TPC_1028
pins: 1, 2

## 7440650022
designator L?  value 2.2uH
WE-TPC SMD Shielded Tiny Power Inductor, size 1028, 6.2A, 11mΩ, 2.2uH; Part Number: 7440650022; ComponentLink1Description: Manufacturer; ComponentLink1URL: http://www.we-online.de; ComponentLink2Description: Datasheet; ComponentLink2URL: http://katalog.we-online.de/pbs/datasheet/7440650022.pdf; Published Date: July 2017; Publisher: Wurth Elektronik; Rated Current: 6.2A; Size: 1028; DC Resistance: 11mΩ
footprint WE-TPC_1028
pins: 1, 2

## 7440650033
designator L?  value 3.3uH
WE-TPC SMD Shielded Tiny Power Inductor, size 1028, 5.3A, 15mΩ, 3.3uH; Part Number: 7440650033; ComponentLink1Description: Manufacturer; ComponentLink1URL: http://www.we-online.de; ComponentLink2Description: Datasheet; ComponentLink2URL: http://katalog.we-online.de/pbs/datasheet/7440650033.pdf; Published Date: July 2017; Publisher: Wurth Elektronik; Rated Current: 5.3A; Size: 1028; DC Resistance: 15mΩ
footprint WE-TPC_1028
pins: 1, 2

## 7440650047
designator L?  value 4.7uH
WE-TPC SMD Shielded Tiny Power Inductor, size 1028, 4.6A, 16.5mΩ, 4.7uH; Part Number: 7440650047; ComponentLink1Description: Manufacturer; ComponentLink1URL: http://www.we-online.de; ComponentLink2Description: Datasheet; ComponentLink2URL: http://katalog.we-online.de/pbs/datasheet/7440650047.pdf; Published Date: July 2017; Publisher: Wurth Elektronik; Rated Current: 4.6A; Size: 1028; DC Resistance: 16.5mΩ
footprint WE-TPC_1028
pins: 1, 2

## 7440650068
designator L?  value 6.8uH
WE-TPC SMD Shielded Tiny Power Inductor, size 1028, 4.2A, 25mΩ, 6.8uH; Part Number: 7440650068; ComponentLink1Description: Manufacturer; ComponentLink1URL: http://www.we-online.de; ComponentLink2Description: Datasheet; ComponentLink2URL: http://katalog.we-online.de/pbs/datasheet/7440650068.pdf; Published Date: July 2017; Publisher: Wurth Elektronik; Rated Current: 4.2A; Size: 1028; DC Resistance: 25mΩ
footprint WE-TPC_1028
pins: 1, 2

## 7440650082
designator L?  value 8.2uH
WE-TPC SMD Shielded Tiny Power Inductor, size 1028, 3.8A, 28.5mΩ, 8.2uH; Part Number: 7440650082; ComponentLink1Description: Manufacturer; ComponentLink1URL: http://www.we-online.de; ComponentLink2Description: Datasheet; ComponentLink2URL: http://katalog.we-online.de/pbs/datasheet/7440650082.pdf; Published Date: July 2017; Publisher: Wurth Elektronik; Rated Current: 3.8A; Size: 1028; DC Resistance: 28.5mΩ
footprint WE-TPC_1028
pins: 1, 2


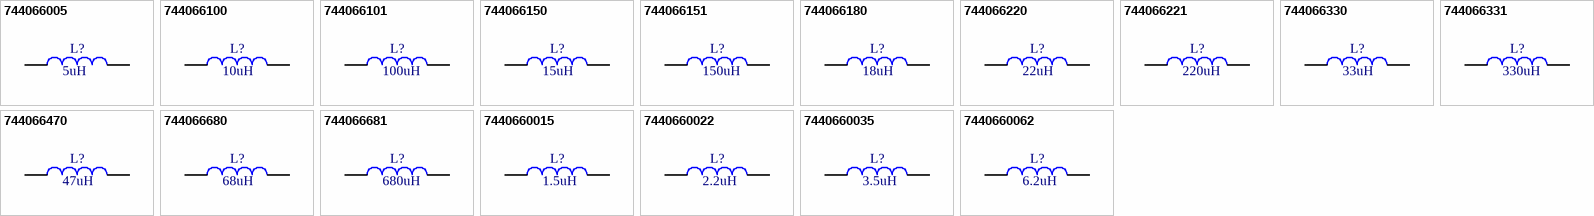
[diagram p11: symbols 744066005 to 7440660062]

## 744066005
designator L?  value 5uH
WE-TPC SMD Shielded Tiny Power Inductor, size 1038, 4.9A, 14.5mΩ, 5uH; Part Number: 744066005; ComponentLink1Description: Manufacturer; ComponentLink1URL: http://www.we-online.de; ComponentLink2Description: Datasheet; ComponentLink2URL: http://katalog.we-online.de/pbs/datasheet/744066005.pdf; Published Date: July 2017; Publisher: Wurth Elektronik; Rated Current: 4.9A; Size: 1038; DC Resistance: 14.5mΩ
footprint WE-TPC_1038
pins: 1, 2

## 744066100
designator L?  value 10uH
WE-TPC SMD Shielded Tiny Power Inductor, size 1038, 3.6A, 25mΩ, 10uH; Part Number: 744066100; ComponentLink1Description: Manufacturer; ComponentLink1URL: http://www.we-online.de; ComponentLink2Description: Datasheet; ComponentLink2URL: http://katalog.we-online.de/pbs/datasheet/744066100.pdf; Published Date: July 2017; Publisher: Wurth Elektronik; Rated Current: 3.6A; Size: 1038; DC Resistance: 25mΩ
footprint WE-TPC_1038
pins: 1, 2

## 744066101
designator L?  value 100uH
WE-TPC SMD Shielded Tiny Power Inductor, size 1038, 1.2A, 255mΩ, 100uH; Part Number: 744066101; ComponentLink1Description: Manufacturer; ComponentLink1URL: http://www.we-online.de; ComponentLink2Description: Datasheet; ComponentLink2URL: http://katalog.we-online.de/pbs/datasheet/744066101.pdf; Published Date: July 2017; Publisher: Wurth Elektronik; Rated Current: 1.2A; Size: 1038; DC Resistance: 255mΩ
footprint WE-TPC_1038
pins: 1, 2

## 744066150
designator L?  value 15uH
WE-TPC SMD Shielded Tiny Power Inductor, size 1038, 3.2A, 37mΩ, 15uH; Part Number: 744066150; ComponentLink1Description: Manufacturer; ComponentLink1URL: http://www.we-online.de; ComponentLink2Description: Datasheet; ComponentLink2URL: http://katalog.we-online.de/pbs/datasheet/744066150.pdf; Published Date: July 2017; Publisher: Wurth Elektronik; Rated Current: 3.2A; Size: 1038; DC Resistance: 37mΩ
footprint WE-TPC_1038
pins: 1, 2

## 744066151
designator L?  value 150uH
WE-TPC SMD Shielded Tiny Power Inductor, size 1038, 1A, 350mΩ, 150uH; Part Number: 744066151; ComponentLink1Description: Manufacturer; ComponentLink1URL: http://www.we-online.de; ComponentLink2Description: Datasheet; ComponentLink2URL: http://katalog.we-online.de/pbs/datasheet/744066151.pdf; Published Date: July 2017; Publisher: Wurth Elektronik; Rated Current: 1A; Size: 1038; DC Resistance: 350mΩ
footprint WE-TPC_1038
pins: 1, 2

## 744066180
designator L?  value 18uH
WE-TPC SMD Shielded Tiny Power Inductor, size 1038, 2.8A, 54mΩ, 18uH; Part Number: 744066180; ComponentLink1Description: Manufacturer; ComponentLink1URL: http://www.we-online.de; ComponentLink2Description: Datasheet; ComponentLink2URL: http://katalog.we-online.de/pbs/datasheet/744066180.pdf; Published Date: July 2017; Publisher: Wurth Elektronik; Rated Current: 2.8A; Size: 1038; DC Resistance: 54mΩ
footprint WE-TPC_1038
pins: 1, 2

## 744066220
designator L?  value 22uH
WE-TPC SMD Shielded Tiny Power Inductor, size 1038, 2.5A, 55.8mΩ, 22uH; Part Number: 744066220; ComponentLink1Description: Manufacturer; ComponentLink1URL: http://www.we-online.de; ComponentLink2Description: Datasheet; ComponentLink2URL: http://katalog.we-online.de/pbs/datasheet/744066220.pdf; Published Date: July 2017; Publisher: Wurth Elektronik; Rated Current: 2.5A; Size: 1038; DC Resistance: 55.8mΩ
footprint WE-TPC_1038
pins: 1, 2

## 744066221
designator L?  value 220uH
WE-TPC SMD Shielded Tiny Power Inductor, size 1038, 0.75A, 570mΩ, 220uH; Part Number: 744066221; ComponentLink1Description: Manufacturer; ComponentLink1URL: http://www.we-online.de; ComponentLink2Description: Datasheet; ComponentLink2URL: http://katalog.we-online.de/pbs/datasheet/744066221.pdf; Published Date: July 2017; Publisher: Wurth Elektronik; Rated Current: 0.75A; Size: 1038; DC Resistance: 570mΩ
footprint WE-TPC_1038
pins: 1, 2

## 744066330
designator L?  value 33uH
WE-TPC SMD Shielded Tiny Power Inductor, size 1038, 2.1A, 92mΩ, 33uH; Part Number: 744066330; ComponentLink1Description: Manufacturer; ComponentLink1URL: http://www.we-online.de; ComponentLink2Description: Datasheet; ComponentLink2URL: http://katalog.we-online.de/pbs/datasheet/744066330.pdf; Published Date: July 2017; Publisher: Wurth Elektronik; Rated Current: 2.1A; Size: 1038; DC Resistance: 92mΩ
footprint WE-TPC_1038
pins: 1, 2

## 744066331
designator L?  value 330uH
WE-TPC SMD Shielded Tiny Power Inductor, size 1038, 0.6A, 770mΩ, 330uH; Part Number: 744066331; ComponentLink1Description: Manufacturer; ComponentLink1URL: http://www.we-online.de; ComponentLink2Description: Datasheet; ComponentLink2URL: http://katalog.we-online.de/pbs/datasheet/744066331.pdf; Published Date: July 2017; Publisher: Wurth Elektronik; Rated Current: 0.6A; Size: 1038; DC Resistance: 770mΩ
footprint WE-TPC_1038
pins: 1, 2

## 744066470
designator L?  value 47uH
WE-TPC SMD Shielded Tiny Power Inductor, size 1038, 1.75A, 121mΩ, 47uH; Part Number: 744066470; ComponentLink1Description: Manufacturer; ComponentLink1URL: http://www.we-online.de; ComponentLink2Description: Datasheet; ComponentLink2URL: http://katalog.we-online.de/pbs/datasheet/744066470.pdf; Published Date: July 2017; Publisher: Wurth Elektronik; Rated Current: 1.75A; Size: 1038; DC Resistance: 121mΩ
footprint WE-TPC_1038
pins: 1, 2

## 744066680
designator L?  value 68uH
WE-TPC SMD Shielded Tiny Power Inductor, size 1038, 1.5A, 185mΩ, 68uH; Part Number: 744066680; ComponentLink1Description: Manufacturer; ComponentLink1URL: http://www.we-online.de; ComponentLink2Description: Datasheet; ComponentLink2URL: http://katalog.we-online.de/pbs/datasheet/744066680.pdf; Published Date: July 2017; Publisher: Wurth Elektronik; Rated Current: 1.5A; Size: 1038; DC Resistance: 185mΩ
footprint WE-TPC_1038
pins: 1, 2

## 744066681
designator L?  value 680uH
WE-TPC SMD Shielded Tiny Power Inductor, size 1038, 0.46A, 1650mΩ, 680uH; Part Number: 744066681; ComponentLink1Description: Manufacturer; ComponentLink1URL: http://www.we-online.de; ComponentLink2Description: Datasheet; ComponentLink2URL: http://katalog.we-online.de/pbs/datasheet/744066681.pdf; Published Date: July 2017; Publisher: Wurth Elektronik; Rated Current: 0.46A; Size: 1038; DC Resistance: 1650mΩ
footprint WE-TPC_1038
pins: 1, 2

## 7440660015
designator L?  value 1.5uH
WE-TPC SMD Shielded Tiny Power Inductor, size 1038, 7.2A, 5.2mΩ, 1.5uH; Part Number: 7440660015; ComponentLink1Description: Manufacturer; ComponentLink1URL: http://www.we-online.de; ComponentLink2Description: Datasheet; ComponentLink2URL: http://katalog.we-online.de/pbs/datasheet/7440660015.pdf; Published Date: July 2017; Publisher: Wurth Elektronik; Rated Current: 7.2A; Size: 1038; DC Resistance: 5.2mΩ
footprint WE-TPC_1038
pins: 1, 2

## 7440660022
designator L?  value 2.2uH
WE-TPC SMD Shielded Tiny Power Inductor, size 1038, 6.7A, 7.7mΩ, 2.2uH; Part Number: 7440660022; ComponentLink1Description: Manufacturer; ComponentLink1URL: http://www.we-online.de; ComponentLink2Description: Datasheet; ComponentLink2URL: http://katalog.we-online.de/pbs/datasheet/7440660022.pdf; Published Date: July 2017; Publisher: Wurth Elektronik; Rated Current: 6.7A; Size: 1038; DC Resistance: 7.7mΩ
footprint WE-TPC_1038
pins: 1, 2

## 7440660035
designator L?  value 3.5uH
WE-TPC SMD Shielded Tiny Power Inductor, size 1038, 5.8A, 11.5mΩ, 3.5uH; Part Number: 7440660035; ComponentLink1Description: Manufacturer; ComponentLink1URL: http://www.we-online.de; ComponentLink2Description: Datasheet; ComponentLink2URL: http://katalog.we-online.de/pbs/datasheet/7440660035.pdf; Published Date: July 2017; Publisher: Wurth Elektronik; Rated Current: 5.8A; Size: 1038; DC Resistance: 11.5mΩ
footprint WE-TPC_1038
pins: 1, 2

## 7440660062
designator L?  value 6.2uH
WE-TPC SMD Shielded Tiny Power Inductor, size 1038, 4.3A, 16.5mΩ, 6.2uH; Part Number: 7440660062; ComponentLink1Description: Manufacturer; ComponentLink1URL: http://www.we-online.de; ComponentLink2Description: Datasheet; ComponentLink2URL: http://katalog.we-online.de/pbs/datasheet/7440660062.pdf; Published Date: July 2017; Publisher: Wurth Elektronik; Rated Current: 4.3A; Size: 1038; DC Resistance: 16.5mΩ
footprint WE-TPC_1038
pins: 1, 2


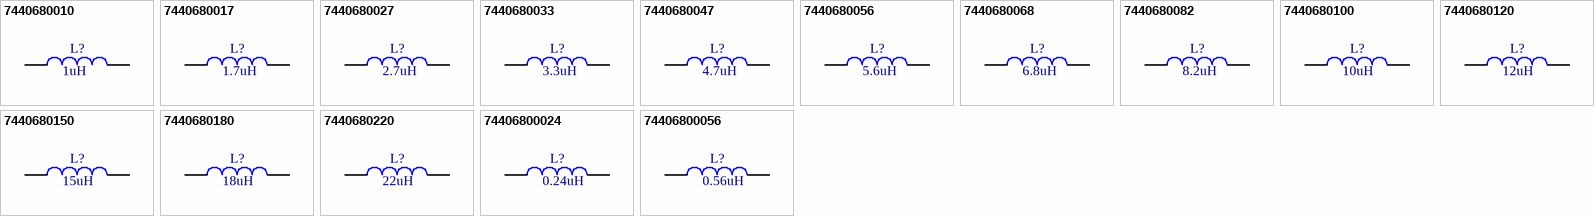
[diagram p12: symbols 7440680010 to 74406800056]

## 7440680010
designator L?  value 1uH
WE-TPC SMD Shielded Tiny Power Inductor, size 8012, 2.8A, 32mΩ, 1uH; Part Number: 7440680010; ComponentLink1Description: Manufacturer; ComponentLink1URL: http://www.we-online.de; ComponentLink2Description: Datasheet; ComponentLink2URL: http://katalog.we-online.de/pbs/datasheet/7440680010.pdf; Published Date: July 2017; Publisher: Wurth Elektronik; Rated Current: 2.8A; Size: 8012; DC Resistance: 32mΩ
footprint WE-TPC_8012
pins: 1, 3

## 7440680017
designator L?  value 1.7uH
WE-TPC SMD Shielded Tiny Power Inductor, size 8012, 2.5A, 41mΩ, 1.7uH; Part Number: 7440680017; ComponentLink1Description: Manufacturer; ComponentLink1URL: http://www.we-online.de; ComponentLink2Description: Datasheet; ComponentLink2URL: http://katalog.we-online.de/pbs/datasheet/7440680017.pdf; Published Date: July 2017; Publisher: Wurth Elektronik; Rated Current: 2.5A; Size: 8012; DC Resistance: 41mΩ
footprint WE-TPC_8012
pins: 1, 3

## 7440680027
designator L?  value 2.7uH
WE-TPC SMD Shielded Tiny Power Inductor, size 8012, 2.2A, 52mΩ, 2.7uH; Part Number: 7440680027; ComponentLink1Description: Manufacturer; ComponentLink1URL: http://www.we-online.de; ComponentLink2Description: Datasheet; ComponentLink2URL: http://katalog.we-online.de/pbs/datasheet/7440680027.pdf; Published Date: July 2017; Publisher: Wurth Elektronik; Rated Current: 2.2A; Size: 8012; DC Resistance: 52mΩ
footprint WE-TPC_8012
pins: 1, 3

## 7440680033
designator L?  value 3.3uH
WE-TPC SMD Shielded Tiny Power Inductor, size 8012, 2A, 61mΩ, 3.3uH; Part Number: 7440680033; ComponentLink1Description: Manufacturer; ComponentLink1URL: http://www.we-online.de; ComponentLink2Description: Datasheet; ComponentLink2URL: http://katalog.we-online.de/pbs/datasheet/7440680033.pdf; Published Date: July 2017; Publisher: Wurth Elektronik; Rated Current: 2A; Size: 8012; DC Resistance: 61mΩ
footprint WE-TPC_8012
pins: 1, 3

## 7440680047
designator L?  value 4.7uH
WE-TPC SMD Shielded Tiny Power Inductor, size 8012, 1.85A, 72mΩ, 4.7uH; Part Number: 7440680047; ComponentLink1Description: Manufacturer; ComponentLink1URL: http://www.we-online.de; ComponentLink2Description: Datasheet; ComponentLink2URL: http://katalog.we-online.de/pbs/datasheet/7440680047.pdf; Published Date: July 2017; Publisher: Wurth Elektronik; Rated Current: 1.85A; Size: 8012; DC Resistance: 72mΩ
footprint WE-TPC_8012
pins: 1, 3